# EAGLE library part MAX5035 (library FSAE Electric)
DC/DC converter 60V input 500mA max
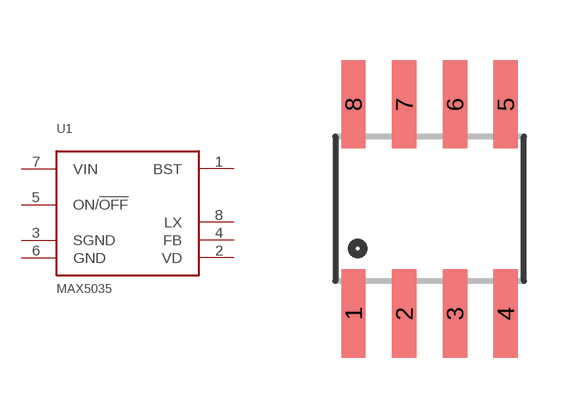
[diagram p31: symbol with the pads of SO-8; footprint SO-8]

Designator prefix U1

## MAX5035  [SO-8]
1  BST
2  VD
3  SGND
4  FB
5  ON/!OFF
6  GND
7  VIN
8  LX

## Footprint SO-8 (pad centres in mm)
smd 0.61 x 2.21: 1 -1.905,-2.616; 2 -0.635,-2.616; 3 0.635,-2.616; 4 1.905,-2.616; 5 1.905,2.616; 6 0.635,2.616; 7 -0.635,2.616; 8 -1.905,2.616